# EAGLE library part RJ45-RJHSE-5080-04 (library AIC_Custom)
Amphenol RJHSE-x080 RJ45 PCB Jack (4-Port) RJ45 8-pin connection PCB PTH connector, 4-Port 90 degree package
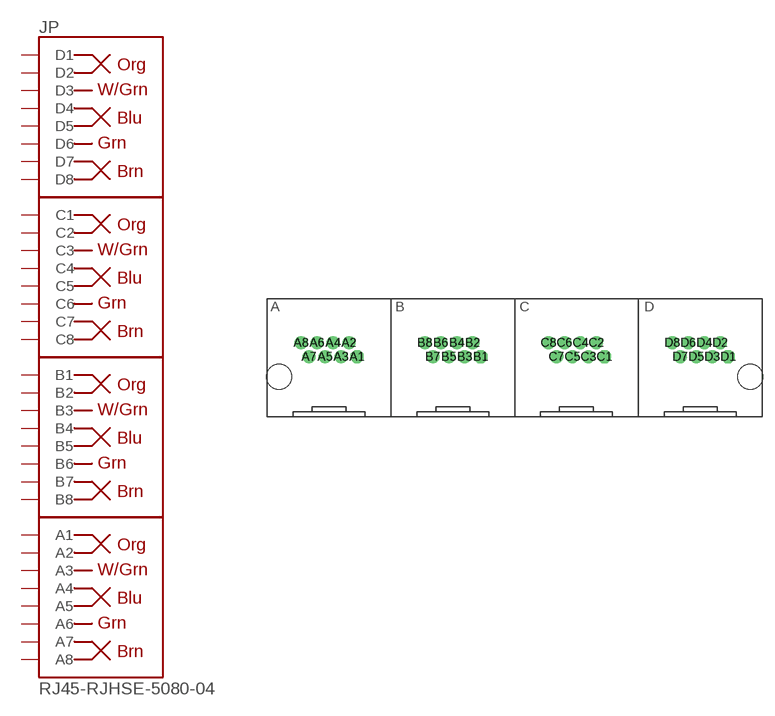
[diagram p7: symbol with the pads of RJ45-RJHSE-5080-04; footprint RJ45-RJHSE-5080-04]

Designator prefix JP

## RJ45-RJHSE-5080-04  [RJ45-RJHSE-5080-04]
A1  A1
A2  A2
A3  A3
A4  A4
A5  A5
A6  A6
A7  A7
A8  A8
B1  B1
B2  B2
B3  B3
B4  B4
B5  B5
B6  B6
B7  B7
B8  B8
C1  C1
C2  C2
C3  C3
C4  C4
C5  C5
C6  C6
C7  C7
C8  C8
D1  D1
D2  D2
D3  D3
D4  D4
D5  D5
D6  D6
D7  D7
D8  D8

## Footprint RJ45-RJHSE-5080-04 (pad centres in mm)
Amphenol RJHSE-5080 RJ45 90 Degree PCB Socket (4-Port) Front edge is 0.2" from origin.
drill 0.9 pad 1.676 octagon: A1 -20.066,2.54; B1 -4.318,2.54; C1 11.43,2.54; D1 27.178,2.54
drill 0.9 pad 1.676: A2 -21.082,4.318; A3 -22.098,2.54; A4 -23.114,4.318; A5 -24.13,2.54; A6 -25.146,4.318; A7 -26.162,2.54; A8 -27.178,4.318; B2 -5.334,4.318; B3 -6.35,2.54; B4 -7.366,4.318; B5 -8.382,2.54; B6 -9.398,4.318; B7 -10.414,2.54; B8 -11.43,4.318; C2 10.414,4.318; C3 9.398,2.54; C4 8.382,4.318; C5 7.366,2.54; C6 6.35,4.318; C7 5.334,2.54; C8 4.318,4.318; D2 26.162,4.318; D3 25.146,2.54; D4 24.13,4.318; D5 23.114,2.54; D6 22.098,4.318; D7 21.082,2.54; D8 20.066,4.318
hole 3.2 at -29.972,0
hole 3.2 at 29.972,0